# Altium schematic symbol library 691 318 500 0xx.SchLib: 6 symbols
Pins are listed as number, name and electrical type; pins without a type are passive.

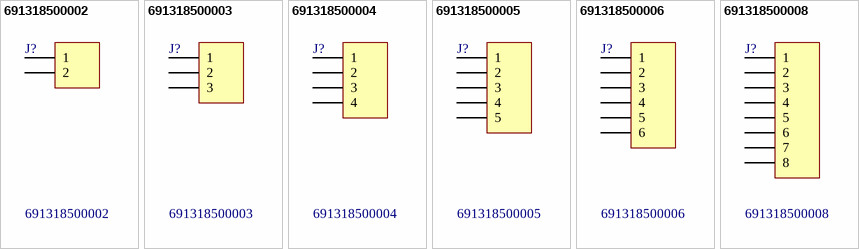
[diagram p0: symbols 691318500002 to 691318500008]

## 691318500002
designator J?
WR-TBL Terminal Blocks Serie 3185 - 5.08 mm with Flanges; Manufacturer: Würth Elektronik eiSos GmbH; ComponentLink1 Description: Manufacturer; ComponentLink2 Description: Datasheet; NoPins: 02; Created Date: 25 March 2014; partNo: 691318500002; ComponentLink1URL: http://www.we-online.com; ComponentLink2URL: http://katalog.we-online.de/em/datasheet/6913185000xx.pdf; Created by: Karrer Zheng; Value: 691318500002
footprint 691318500002
pins: 1, 2

## 691318500003
designator J?
WR-TBL Terminal Blocks Serie 3185 - 5.08 mm with Flanges; Manufacturer: Würth Elektronik eiSos GmbH; ComponentLink1 Description: Manufacturer; ComponentLink2 Description: Datasheet; NoPins: 03; Created Date: 25 March 2014; partNo: 691318500003; ComponentLink1URL: http://www.we-online.com; ComponentLink2URL: http://katalog.we-online.de/em/datasheet/6913185000xx.pdf; Created by: Karrer Zheng; Value: 691318500003
footprint 691318500003
pins: 1, 2, 3

## 691318500004
designator J?
WR-TBL Terminal Blocks Serie 3185 - 5.08 mm with Flanges; Manufacturer: Würth Elektronik eiSos GmbH; ComponentLink1 Description: Manufacturer; ComponentLink2 Description: Datasheet; NoPins: 04; Created Date: 25 March 2014; partNo: 691318500004; ComponentLink1URL: http://www.we-online.com; ComponentLink2URL: http://katalog.we-online.de/em/datasheet/6913185000xx.pdf; Created by: Karrer Zheng; Value: 691318500004
footprint 691318500004
pins: 1, 2, 3, 4

## 691318500005
designator J?
WR-TBL Terminal Blocks Serie 3185 - 5.08 mm with Flanges; Manufacturer: Würth Elektronik eiSos GmbH; ComponentLink1 Description: Manufacturer; ComponentLink2 Description: Datasheet; NoPins: 05; Created Date: 25 March 2014; partNo: 691318500005; ComponentLink1URL: http://www.we-online.com; ComponentLink2URL: http://katalog.we-online.de/em/datasheet/6913185000xx.pdf; Created by: Karrer Zheng; Value: 691318500005
footprint 691318500005
pins: 1, 2, 3, 4, 5

## 691318500006
designator J?
WR-TBL Terminal Blocks Serie 3185 - 5.08 mm with Flanges; Manufacturer: Würth Elektronik eiSos GmbH; ComponentLink1 Description: Manufacturer; ComponentLink2 Description: Datasheet; NoPins: 06; Created Date: 25 March 2014; partNo: 691318500006; ComponentLink1URL: http://www.we-online.com; ComponentLink2URL: http://katalog.we-online.de/em/datasheet/6913185000xx.pdf; Created by: Karrer Zheng; Value: 691318500006
footprint 691318500006
pins: 1, 2, 3, 4, 5, 6

## 691318500008
designator J?
WR-TBL Terminal Blocks Serie 3185 - 5.08 mm with Flanges; Manufacturer: Würth Elektronik eiSos GmbH; ComponentLink1 Description: Manufacturer; ComponentLink2 Description: Datasheet; NoPins: 08; Created Date: 25 March 2014; partNo: 691318500008; ComponentLink1URL: http://www.we-online.com; ComponentLink2URL: http://katalog.we-online.de/em/datasheet/6913185000xx.pdf; Created by: Karrer Zheng; Value: 691318500008
footprint 691318500008
pins: 1, 2, 3, 4, 5, 6, 7, 8